# EAGLE library part XBEE (library myLib)
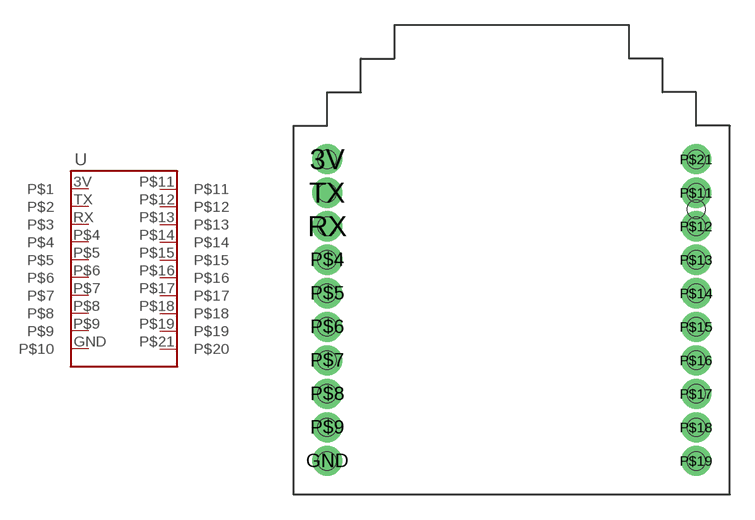
[diagram p4: symbol with the pads of XBEE; footprint XBEE]

Designator prefix -

## XBEE  [XBEE]
3V  P$1
GND  P$10
P$4  P$4
P$5  P$5
P$6  P$6
P$7  P$7
P$8  P$8
P$9  P$9
P$11  P$11
P$12  P$12
P$13  P$13
P$14  P$14
P$15  P$15
P$16  P$16
P$17  P$17
P$18  P$18
P$19  P$19
P$21  P$20
RX  P$3
TX  P$2

## Footprint XBEE (pad centres in mm)
drill 1.2: 3V -10,6; GND -10,-12; P$4 -10,0; P$5 -10,-2; P$6 -10,-4; P$7 -10,-6; P$8 -10,-8; P$9 -10,-10; P$11 12,4; P$12 12,2; P$13 12,0; P$14 12,-2; P$15 12,-4; P$16 12,-6; P$17 12,-8; P$18 12,-10; P$19 12,-12; P$21 12,6; RX -10,2; TX -10,4
hole 1.1 at -10,4
hole 1.1 at -10,6
hole 1.1 at -10,2
hole 1.1 at -10,0
hole 1.1 at -10,-2
hole 1.1 at -10,-4
hole 1.1 at -10,-6
hole 1.1 at -10,-8
hole 1.1 at -10,-10
hole 1.1 at -10,-12
hole 1.1 at 12,-12
hole 1.1 at 12,-10
hole 1.1 at 12,-8
hole 1.1 at 12,-6
hole 1.1 at 12,-4
hole 1.1 at 12,-2
hole 1.1 at 12,0
hole 1.1 at 12,2
hole 1.1 at 12,3
hole 1.1 at 12,4
hole 1.1 at 12,6